# Altium schematic symbol library BBB.Schlib: 1 symbol
Pins are listed as number, name and electrical type; pins without a type are passive.

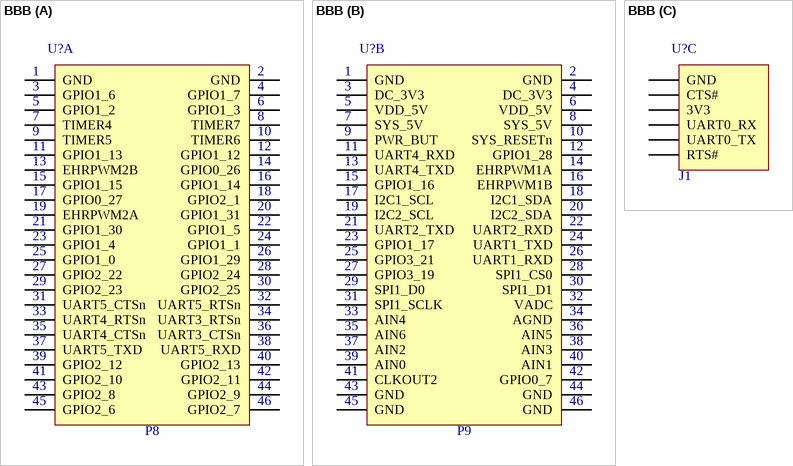
[diagram p0: symbol BBB]

## BBB
designator U?  (value not drawn)
Beaglebone Black
part A pins: 1 GND, 2 GND, 3 GPIO1_6, 4 GPIO1_7, 5 GPIO1_2, 6 GPIO1_3, 7 TIMER4, 8 TIMER7, 9 TIMER5, 10 TIMER6, 11 GPIO1_13, 12 GPIO1_12, 13 EHRPWM2B, 14 GPIO0_26, 15 GPIO1_15, 16 GPIO1_14, 17 GPIO0_27, 18 GPIO2_1, 19 EHRPWM2A, 20 GPIO1_31, 21 GPIO1_30, 22 GPIO1_5, 23 GPIO1_4, 24 GPIO1_1, 25 GPIO1_0, 26 GPIO1_29, 27 GPIO2_22, 28 GPIO2_24, 29 GPIO2_23, 30 GPIO2_25, 31 UART5_CTSn, 32 UART5_RTSn, 33 UART4_RTSn, 34 UART3_RTSn, 35 UART4_CTSn, 36 UART3_CTSn, 37 UART5_TXD, 38 UART5_RXD, 39 GPIO2_12, 40 GPIO2_13, 41 GPIO2_10, 42 GPIO2_11, 43 GPIO2_8, 44 GPIO2_9, 45 GPIO2_6, 46 GPIO2_7
part B pins: 47 GND, 48 GND, 49 DC_3V3, 50 DC_3V3, 51 VDD_5V, 52 VDD_5V, 53 SYS_5V, 54 SYS_5V, 55 PWR_BUT, 56 SYS_RESETn, 57 UART4_RXD, 58 GPIO1_28, 59 UART4_TXD, 60 EHRPWM1A, 61 GPIO1_16, 62 EHRPWM1B, 63 I2C1_SCL, 64 I2C1_SDA, 65 I2C2_SCL, 66 I2C2_SDA, 67 UART2_TXD, 68 UART2_RXD, 69 GPIO1_17, 70 UART1_TXD, 71 GPIO3_21, 72 UART1_RXD, 73 GPIO3_19, 74 SPI1_CS0, 75 SPI1_D0, 76 SPI1_D1, 77 SPI1_SCLK, 78 VADC, 79 AIN4, 80 AGND, 81 AIN6, 82 AIN5, 83 AIN2, 84 AIN3, 85 AIN0, 86 AIN1, 87 CLKOUT2, 88 GPIO0_7, 89 GND, 90 GND, 91 GND, 92 GND
part C pins: J1_1 GND, J1_2 CTS#, J1_3 3V3, J1_4 UART0_RX, J1_5 UART0_TX, J1_6 RTS#
part A text: P8
part B text: P9
part C text: J1